# EAGLE library part ТрС-ЛС1 (library others)
ЕСКФ.671152.001 ТУ Трансформаторная сборка для гальванической развязки в локальных сетях Ethernet 10BASE-T. Интервал рабочих температур – минус 40..+65°С. Наименование параметра, единица измерения Норма параметра Не менее Типовое Не более Индуктивность обмоток трансформаторов на частоте 1 МГц, мкГн 100 Не нормируется Не нормируется Сопротивление обмоток постоянному току, Ом Не нормируется Не нормируется 1 Межобмоточная емкость на частоте 1 МГц, пФ Не нормируется Не нормируется 50 Коэффициент трансформации на частоте 1 МГц 0,9 1 1,1 Сопротивление изоляции трансформаторных сборок при испытательном напряжении 500 В, МОм 50 Не нормируется Не нормируется Пример обозначения при заказе и в конструкторской документации: Трансформаторная сборка ТрС-ЛС1 ЕСКФ.671152.004 СБ Производитель: «Завод Магнетон», г. Санкт-Петербург. Технические условия: ЕСКФ.671152.001 ТУ
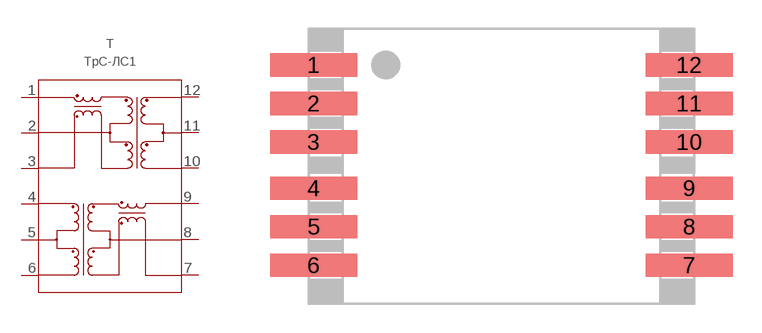
[diagram p3: symbol with the pads of ТрС-ЛС1(2); footprint ТрС-ЛС1(2)]

Designator prefix T

## ТрС-ЛС1  [ТрС-ЛС1(2)]
1  1
2  2
3  3
4  4
5  5
6  6
7  7
8  8
9  9
10  10
11  11
12  12

## Footprint ТрС-ЛС1(2) (pad centres in mm)
smd 4.5 x 1.2: 1 -9.45,5.2; 2 -9.45,3.2; 3 -9.45,1.2; 4 -9.45,-1.2; 5 -9.45,-3.2; 6 -9.45,-5.2; 7 10.05,-5.2; 8 10.05,-3.2; 9 10.05,-1.2; 10 10.05,1.2; 11 10.05,3.2; 12 10.05,5.2